# Altium schematic symbol library GRM033R71E121KA01D.SchLib: 1 symbol
Pins are listed as number, name and electrical type; pins without a type are passive.

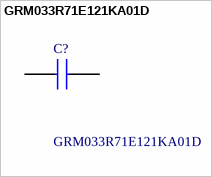
[diagram p0: symbol GRM033R71E121KA01D]

## GRM033R71E121KA01D
designator C?
Multilayer Ceramic Capacitors MLCC - SMD/SMT 120pF 25 volts 10%; Manufacturer_Name: Murata Electronics; Geometry.Height: 0.33mm; Manufacturer_Part_Number: GRM033R71E121KA01D; Mouser Part Number: 81-GRM033R71E121KA1D; Mouser Price/Stock: https://www.mouser.co.uk/ProductDetail/Murata-Electronics/GRM033R71E121KA01D?qs=DgSEN5cN%252B77aTTnmwSmLEA%3D%3D; Arrow Part Number: GRM033R71E121KA01D; Arrow Price/Stock: https://www.arrow.com/en/products/grm033r71e121ka01d/murata-manufacturing; Datasheet Link: http://www.murata.com/~/media/webrenewal/support/library/catalog/products/capacitor/mlcc/c02e.pdf
footprint CAPC0603X33N
pins: 1, 2